# Altium schematic symbol library TPS566231RQF.SchLib: 2 symbols
Pins are listed as number, name and electrical type; pins without a type are passive.

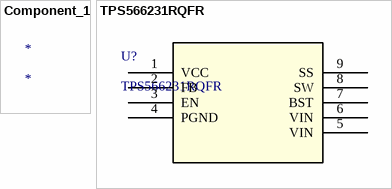
[diagram p0: symbols Component_1 to TPS566231RQFR]

## Component_1
designator *

## TPS566231RQFR
designator U?
No Description Available; Built_By: EMA_Matt; Vendor: Texas Instruments; SourceLibrary: TI_2020-07-16; Datasheet: https://www.ti.com.cn/cn/lit/ds/symlink/tps566238.pdf?ts=1594414902944&ref_url=https%253A%252F%252Fwww.google.com%252F; Copyright: Copyright (C) 2018 Accelerated Designs. All rights reserved; Manufacturer_Part_Number: TPS566231RQFR; RefDes: RefDes; Type: DEV
footprint QFN_231RQFR_TEX
pins: 1 VCC (power), 2 FB, 3 EN, 4 PGND, 5 VIN, 6 VIN, 7 BST, 8 SW, 9 SS